# Altium integrated library AirSenseV2_03.IntLib: 21 symbols
Pins are listed as number, name and electrical type; pins without a type are passive.

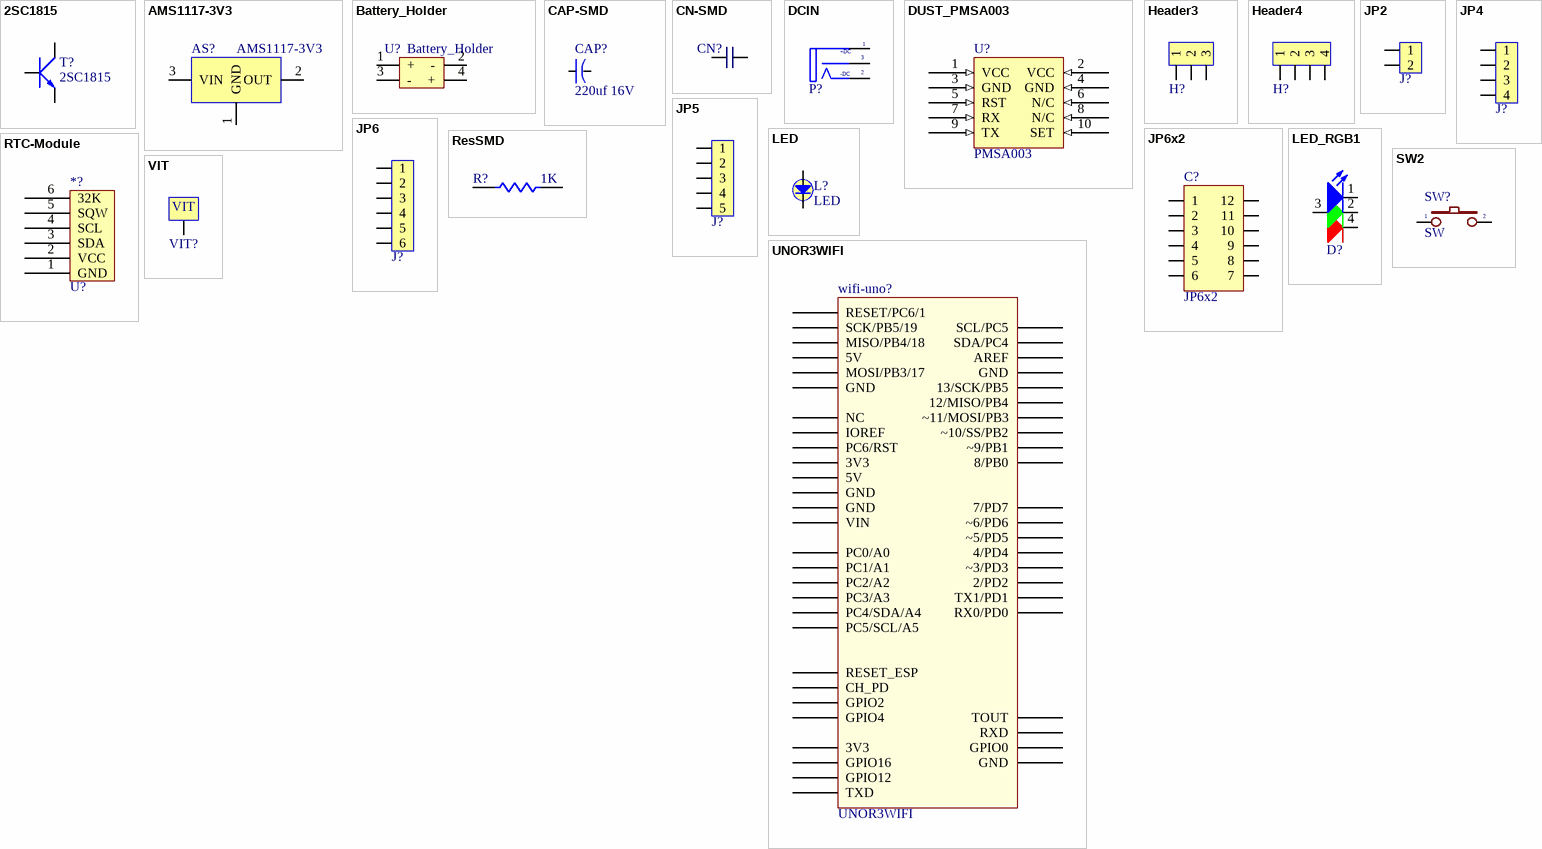
[diagram p0: symbols 2SC1815 to VIT]

## 2SC1815
designator T?
Bipolar Transistors - BJT NPN Epitaxial Sil
footprint TO92-BCE (3-Pin Plastic Header-Style Package)
footprint TO92-BCE1 (3-Pin Plastic Header-Style Package)
footprint TO92-BCE2 (3-Pin Plastic Header-Style Package)
footprint TO92-BCE3 (3-Pin Plastic Header-Style Package)
footprint SOT23-BCE (SOT23, plastic surface-mounted package; 3 leads)
pins: 1 B, 2 C, 3 E

## AMS1117-3V3
designator AS?
800mA Low-Dropout Linear Regulator
footprint SOT223
footprint TO220H1 (TO-220 - 1-2-3)
footprint TO220-BCE (TO-220 - 1-2-3)
footprint TO220H2 (TO-220 - 1-2-3)
footprint TO220NH (TO-220 - 1-2-3)
footprint TO220H3 (TO-220 1-2-3)
pins: 1 GND, 2 OUT, 3 VIN

## Battery_Holder
designator U?
footprint 18650x2
pins: 1 + (power), 2 - (power), 3 - (power), 4 + (power)

## CAP-SMD
designator CAP?, comment 220uf 16V
Cap Aluminum Lytic 100uF 10V 20% (8 X 6.2mm) SMD 230mA 1000h 105C Embossed T/R
footprint CA-4.3x4.3 (10,22uF-16V, 0.1uF-50V)
footprint CAP-ALU-SMD-5x5.5x1.4
footprint CAP-ALU-SMD-5.5x5.5
footprint CA-6.5x6.5 (47,100,220uF-16V, 33, 47,100uF-25V, 10,47uF-50V)
footprint CAP-ALU-SMD-C
footprint CAP-ALU-SMD-D
footprint CAP-ALU-SMD-F
footprint CAP-ALU-SMD-G
footprint CAP-ALU-SMD-H
footprint CAP-ALU-SMD-J
footprint CAP-ALU-SMD-K
footprint CAP-ALU-SMD-2412 (Tantalium 10u/16V)
footprint CAP-SMD-7343 (Capcacitor SMD 7.3 x 4.3mm (D-Case))
footprint CAP-SMD-3528 (Capacitor 3.5x2.8mm (B-Case))
footprint CA-8.3x8.3 (470uF-16V, 220uF-25V, 330uF-25V, 100uF-50V)
footprint CA-10.0x10.0 (1000uF-16V, 220uF-50V, 470uF-25V,)
pins: 1, 2
1 alternate drawing of the same symbol

## CN-SMD
designator CN?  (value not drawn)
CAP CER 0.047UF 25V X7R 040
footprint C-0.20.1
footprint C-0105 (Capacitor, Ceramic, 10uF 10% 10V 01005 (2012) X5R)
footprint C-0402 (0402 Capitor)
footprint C-0504
footprint C-0603
footprint C-0805
footprint C-1206
footprint C-1210
footprint C-1812
footprint C-1825
footprint C-2220
footprint C-2225
footprint C-7163
pins: 1, 2

## DCIN
designator P?  (value not drawn)
CONN POWER JACK 2.1X5.5MM SMD
footprint DC0 (Jac DC input)
footprint DC1 (WR-DC_DC Power Jack_Right Angled_THT Center Pin ?0.65_Plug ID ?0.75_Plug OD ?2.35_with Peg)
footprint DC2 (WR-DC_DC Power Jack_Vertical_THT WR-DC_DC Power Jack_Vertical_THT)
footprint DC3 (WR-DC_DC Power Jack_Vertical_THT Center Pin ?2.5_Plug ID ?2.55_Plug OD ?5.5)
footprint DC4 (WR-DC_DC Power Jack_Right Angled_THT Center Pin ?1.0_Plug ID ?1.05_Plug OD ?3.5_with Peg)
footprint DC5 (WR-DC_DC Power Jack_Right Angled_THT Center Pin ?1.3_Plug ID ?1.35_Plug OD ?3.5_with Peg)
footprint DC6 (SMD DC SOCKETS 2.5)
footprint DC7 (PJ-032H-SMT-TR)
pins: 1 T "Tip", 2 TN "Tip Normal (Break Contact)", 3 S (power) "Sleeve (Ground)"
text: +DC; -DC

## DUST_PMSA003
designator U?, comment PMSA003
footprint DUST_PMSA003
pins: 1 VCC (in), 2 VCC (in), 3 GND (in), 4 GND (in), 5 RST (in), 6 N/C (in), 7 RX (in), 8 N/C (in), 9 TX (in), 10 SET (in)

## Header3
designator H?  (value not drawn)
Header IDC, 3 x 1 Pin Vertical 2.54mm Pitch (Non-Boxed, Male)
footprint HDR3 (Connector; Header; 3 Position)
footprint Header3 (CON 3)
pins: 1, 2, 3

## Header4
designator H?  (value not drawn)
Header IDC, 4 x 1 Pin Vertical 2.54mm Pitch (Non-Boxed, Male)
footprint HDR4 (Connector; Header; 4 Position)
footprint Header4 (CON4)
pins: 1, 2, 3, 4

## JP2
designator J?  (value not drawn)
WR-PHD 2.54 mm Angled Socket Header
footprint JP2-CLOSED
footprint JP2-C1C (02p 1 row Right angle)
footprint JP2-D1C (2 pins, 1 row, right angled, gold plating)
footprint JP2-D1T (2 pins, 1 row, straight, gold plating)
footprint JP2-C1T (2 row, straight, gold plating)
pins: 1, 2

## JP4
designator J?  (value not drawn)
WR-PHD 2.54 mm Angled Socket Header
footprint JP4-C1T (4 row, straight, gold plating)
footprint JP4-C1C (04p 1 row Right angle)
footprint JP4-D1C (4 pins, 1 row, right angled, gold plating)
footprint JP4-D1T (4 pins, 1 row, straight, gold plating)
pins: 1, 2, 3, 4

## JP5
designator J?  (value not drawn)
WR-PHD 2.54 mm Angled Socket Header
footprint JP5-C1T (5 row, straight, gold plating)
footprint JP5-D1C (5 pins, 1 row, right angled, gold plating)
footprint JP5-C1C (05p 1 row Right angle)
footprint JP5-D1T (5 pins, 1 row, straight, gold plating)
pins: 1, 2, 3, 4, 5

## JP6
designator J?  (value not drawn)
WR-PHD 2.54 mm Angled Socket Header
footprint JP6-C1T (6 row, straight, gold plating)
footprint JP6-D1C (6 pins, 1 row, right angled, gold plating)
footprint JP6-C1C (06p 1 row Right angle)
footprint JP6-D1T (6 pins, 1 row, straight, gold plating)
pins: 1, 2, 3, 4, 5, 6

## JP6x2
designator C?
WR-PHD 2.54 mm Dual Socket Header; Manufacturer: W¨¹rth Elektronik eiSos GmbH; partNo: 61301221821; ComponentLink1 Description: Manufacturer; ComponentLink2 Description: Datasheet; NoPins: 12; Created Date: 29 March 2013; ComponentLink1URL: http://www.we-online.com; ComponentLink2URL: http://katalog.we-online.de/em/datasheet/6130xx21821.pdf; Created by: Karrer Zheng
footprint JP6-D2T (12 pins, dual pin, straight, gold plating)
footprint JP6-D2C (12 pins, dual row, right angled, gold plating)
footprint JP6-C2C (12p 2 rows Right angle)
footprint JP6-C2T (12 pins, dual row, straight, gold plating)
pins: 1, 2, 3, 4, 5, 6, 7, 8, 9, 10, 11, 12

## LED
designator L?
DIALIGHT         5988270107F            LED, Green, SMD, 20 mA, 2 V, 570 nm
footprint L-3B
footprint L-3G
footprint L-3R
footprint L-3W (LED 2 PIN, 3ly Only colour)
footprint L-3Y
footprint L-5B (LED 2 PIN, 5 ly , Only colour, pin to pin 110mil)
footprint L-5G (LED 2 PIN, 5 ly , Only colour,pin to pin 100mil)
footprint L-5O (LED 2 PIN, 5 ly , Only colour,pin to pin 100mil)
footprint L-5R (LED 2 PIN, 5 ly , Only colour,pin to pin 100mil)
footprint L-5W (LED 2 PIN, 5 ly , Only colour, pin to pin 110mil)
pins: 1 A, 2 K

## LED_RGB1
designator D?  (value not drawn)
footprint LED RGB 5MM TYPE A (A node chung)
pins: 1 K_B, 2 K_G, 3 A, 4 K_R

## ResSMD
designator R?, comment 1K
RES SMD 0.0 OHM JUMPER 1/8W 0805
footprint R0101
footprint R0201
footprint R0402
footprint R0504
footprint R0603
footprint R0805 (Chip Resistor, 2x1.2mm)
footprint R1206
footprint R1210
footprint R1812
footprint R2010
footprint R2512
footprint R3216
footprint R3225
footprint R5025
footprint R6332
pins: 1, 2

## RTC-Module
designator *?, comment U?
footprint RTC_Module
pins: 1 GND, 2 VCC, 3 SDA, 4 SCL, 5 SQW, 6 32K

## SW2
designator SW?, comment SW
Switch button 2 pin; Value: SW chip 2 pin
footprint SW1-SMD
footprint SW-DIP1
footprint SW-DIP1-1 (01p, 2.54mm Pitch, Horizontal, Box Type, THT, flat Actuator, red, without Tape, Tube)
footprint SW1-DIP
pins: 1, 2

## UNOR3WIFI
designator wifi-uno?
footprint UNOR3WIFI
pins: 3V3 (power), 3V3 (power), 5V (power), 5V (power), AREF, CH_PD, GND (power), GND (power), GND (power), GND (power), GND (power), GPIO0, GPIO2, GPIO4, GPIO12, GPIO16, IOREF, NC, PB0 8/PB0, PB1 ~9/PB1, PB2 ~10/SS/PB2, PB3 ~11/MOSI/PB3, PB3 MOSI/PB3/17, PB4 12/MISO/PB4, PB4 MISO/PB4/18, PB5 13/SCK/PB5, PB5 SCK/PB5/19, PC0 PC0/A0, PC1 PC1/A1, PC2 PC2/A2, PC3 PC3/A3, PC4 PC4/SDA/A4, PC4 SDA/PC4, PC5 PC5/SCL/A5, PC5 SCL/PC5, PC6 RESET/PC6/1, PC6 PC6/RST, PD0 RX0/PD0, PD1 TX1/PD1, PD2 2/PD2, PD3 ~3/PD3, PD4 4/PD4, PD5 ~5/PD5, PD6 ~6/PD6, PD7 7/PD7, RESET_ESP, RXD, TOUT, TXD, VIN (power)

## VIT
designator VIT?  (value not drawn)
Oc Vit
footprint VIT
pins: VIT1 1